# EAGLE library part 2X10 (library headers.edge(.1in))
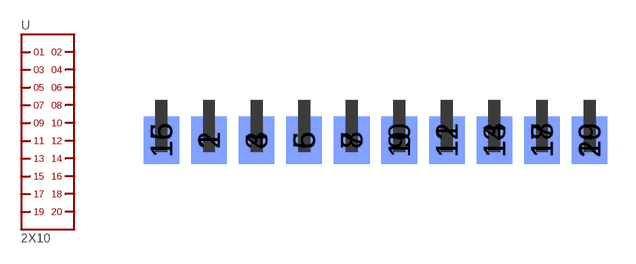
[diagram p12: symbol with the pads of 2X10; footprint 2X10]

Designator prefix -

## 2X10  [2X10]
1  1
2  2
3  3
4  4
5  5
6  6
7  7
8  8
9  9
10  10
11  11
12  12
13  13
14  14
15  15
16  16
17  17
18  18
19  19
20  20

## Footprint 2X10 (pad centres in mm)
smd 1.905 x 2.54: 1 2.54,-2.159; 3 5.08,-2.159; 5 7.62,-2.159; 7 10.16,-2.159; 9 12.7,-2.159; 11 15.24,-2.159; 13 17.78,-2.159; 15 0,-2.159; 17 20.32,-2.159; 19 22.86,-2.159
smd 1.905 x 2.54 bottom: 2 2.54,-2.159; 4 5.08,-2.159; 6 7.62,-2.159; 8 10.16,-2.159; 10 12.7,-2.159; 12 15.24,-2.159; 14 17.78,-2.159; 16 0,-2.159; 18 20.32,-2.159; 20 22.86,-2.159